# EAGLE library part IRF7910 (library bbauv)
POWER MOSFETS High Frequency 3.3V and 5V input Point- of-Load Synchronous Buck Converters for Netcom and Computing Applications Power Management for Netcom, Computing and Portable Applications Lead-Free
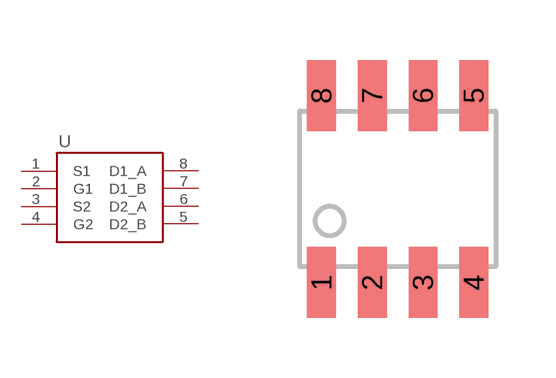
[diagram p2: symbol with the pads of SO-8; footprint SO-8]

Designator prefix -

## IRF7910PBF  [SO-8]
1  S1
2  G1
3  S2
4  G2
5  D2_B
6  D2_A
7  D1_B
8  D1_A

## Footprint SO-8 (pad centres in mm)
smd 0.72 x 1.78: 1 -1.905,-2.34; 2 -0.635,-2.34; 3 0.635,-2.34; 4 1.905,-2.34; 5 1.905,2.34; 6 0.635,2.34; 7 -0.635,2.34; 8 -1.905,2.34